# Altium footprint library IND_0201.PcbLib: 1 footprints
Each footprint in its own frame and in the unit in brackets; x right, y up, seen from the top. Pads: shape width x height; smd on the part's side, far side on the other; paste and mask are expansions set on the pad; w line width, h text height; cw(c..) or ccw(c..) is an arc to the next point about the centre after c.
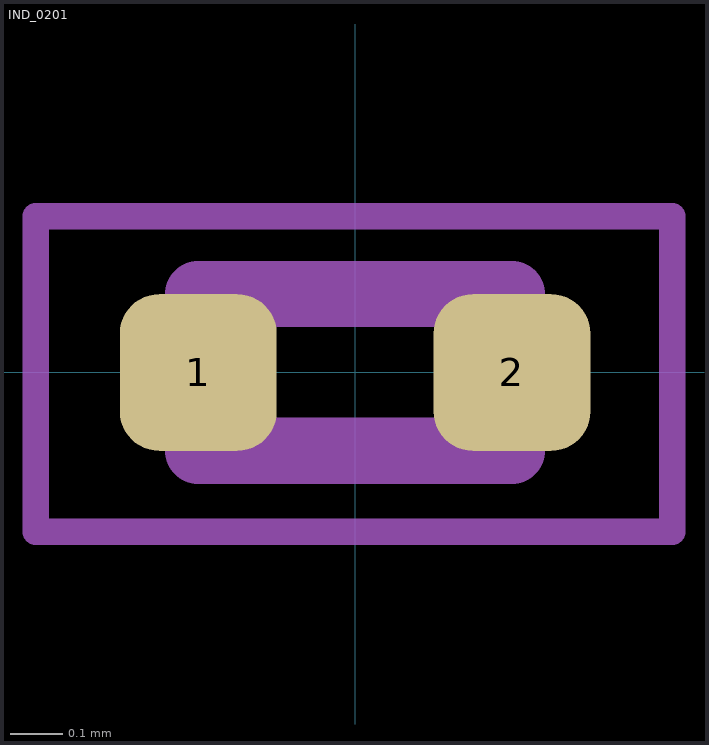
[diagram p0: the footprint, top view; thin cyan lines are the x and y axes]

## IND_0201 [mm]
pads (2):
  rrect50% 0.3x0.3 smd: 1(-0.3,0) 2(0.3,0)
Top 3D Body:
  lines w0.127: -0.3,-0.15 0.3,-0.15 0.3,0.15 -0.3,0.15 -0.3,-0.15
Top Courtyard:
  lines w0.05: -0.611,-0.305 0.606,-0.305 0.606,0.299 -0.611,0.299 -0.611,-0.305
3D body "LQP03HQ2N7B02D.STEP": height 0.42, standoff 0, extent -0.3,-0.15 0.3,0.15